# Altium footprint library PcbLib1.PcbLib: 22 footprints (part 2 of 2)
Each footprint in its own frame and in the unit in brackets; x right, y up, seen from the top. Pads: shape width x height; smd on the part's side, far side on the other; paste and mask are expansions set on the pad; w line width, h text height; cw(c..) or ccw(c..) is an arc to the next point about the centre after c.
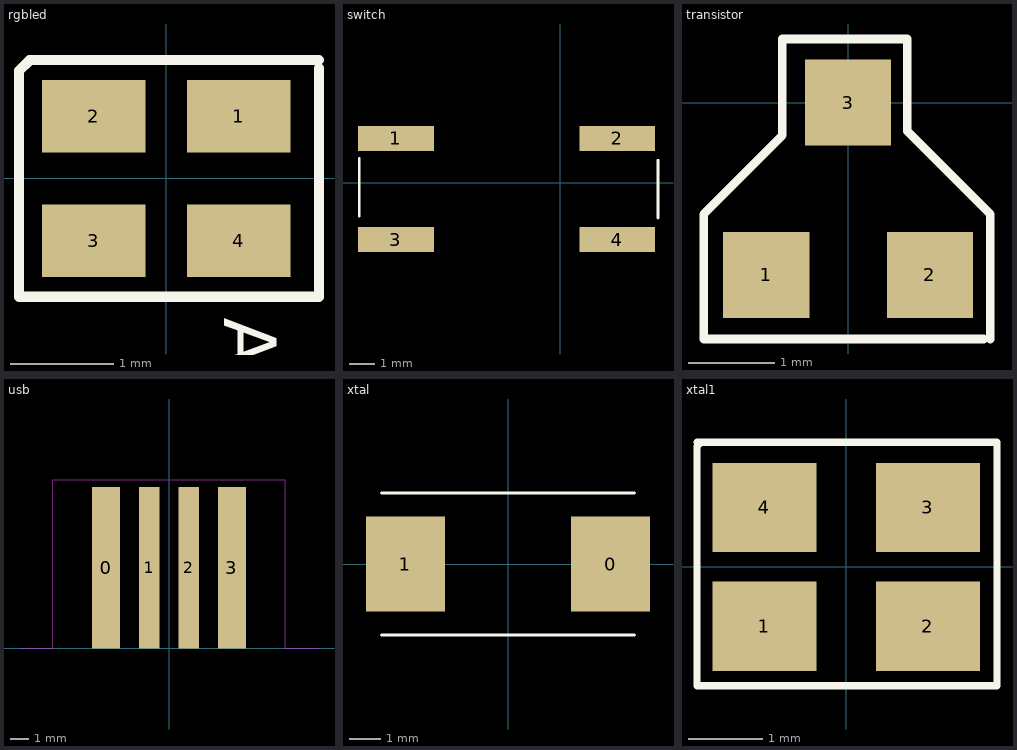
[diagram p1: the footprints below, top view; thin cyan lines are the x and y axes]

## rgbled [mm]
pads (4):
  rect 1x0.7 smd: 1(0.7,0.6) 2(-0.7,0.6) 3(-0.7,-0.6) 4(0.7,-0.6)
Top Overlay:
  lines w0.1: 1.473,1.067 1.473,-1.143 -1.422,-1.143 -1.422,1.041 -1.321,1.143 1.473,1.143
  text "A" at 0.559,-1.346 h0.51

## switch [mm]
pads (4):
  rect 3x1 smd: 1(-6.5,1.75) 2(2.25,1.75) 3(-6.5,-2.25) 4(2.25,-2.25)
Top Overlay:
  lines w0.1: -7.95,-1.321 -7.95,0.965 ; 3.861,-1.397 3.861,0.889

## transistor [mm]
pads (3):
  rect 1x1 smd: 1(-0.95,-2) 2(0.95,-2) 3(0,0)
Top Overlay:
  lines w0.1: 1.575,-2.743 -1.676,-2.743 -1.676,-1.295 -0.762,-0.381 -0.762,0.737 0.686,0.737 0.686,-0.33 1.651,-1.295 1.651,-2.743

## usb [mm]
pads (4):
  rect 1.5x8.6 smd: 0(-3.35,4.3) 3(3.35,4.3)
  rect 1.1x8.6 smd: 1(-1.05,4.3) 2(1.05,4.3)
Keep-Out Layer:
  lines w0.05: -8,0 -6.2,0 -6.2,9 6.2,9 6.2,0 8,0

## xtal [mm]
pads (2):
  rect 2.5x3 smd: 0(3.25,0) 1(-3.25,0)
Top Overlay:
  lines w0.1: -4,-2.25 4,-2.25 ; -4,2.25 4,2.25

## xtal1 [mm]
pads (4):
  rect 1.4x1.2 smd: 1(-1.1,-0.8) 2(1.1,-0.8) 3(1.1,0.8) 4(-1.1,0.8)
Top Overlay:
  lines w0.1: -2.007,1.676 2.032,1.676 2.032,-1.6 -2.007,-1.6 -2.007,1.626 -1.956,1.676